# Altium schematic symbol library acelerometro.SchLib: 3 symbols
Pins are listed as number, name and electrical type; pins without a type are passive.

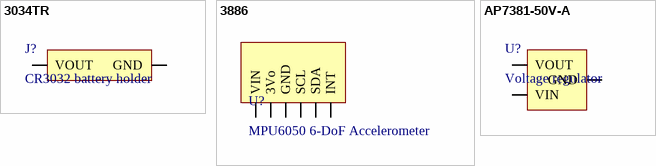
[diagram p0: symbols 3034TR to AP7381-50V-A]

## 3034TR
designator J?, comment CR3032 battery holder
footprint FP-3034TR-MFG
pins: 1 VOUT, 2 GND

## 3886
designator U?, comment MPU6050 6-DoF Accelerometer
Apex Tool Group Ratcheting Tap and Die Set (40-Piece) 3886; Manufacturer: Adafruit Industries; Manufacturer Part Number: 3886; Supplier: Digikey; Supplier Part Number: 1528-3886-ND; RoHS: No; Category: Uncategorized; Stock: 118; Pricing: 1=12.95 (USD)
footprint MPU6050
pins: 1 VIN, 2 3Vo, 3 GND, 4 SCL, 5 SDA, 6 INT

## AP7381-50V-A
designator U?, comment Voltage regulator
Fixed Positive LDO Regulator; Manufacturer: Diodes; Manufacturer Part Number: AP7381-50V-A; Regulator Type: FIXED POSITIVE SINGLE OUTPUT LDO REGULATOR; Time @ Peak Reflow Temperature-Max (s): 30s; Supplier: Digikey; Supplier Part Number: AP7381-50V-ADICT-ND; RoHS: Yes; Stock: 6439; Pricing: 1=0.46, 10=0.374, 25=0.3424, 100=0.2547, 250=0.2308, 500=0.19102, 1000=0.14326 (USD); Peak Reflow Temperature (Cel): 260°C; Reach SVHC Compliant: Yes; RoHS Compliant: Yes; ComponentLink1URL: https://datasheet.ciiva.com:443/pdfs/VipMasterIC/IC/DIOD/DIOD-S-A0009691348/DIOD-S-A0009865550-1.pdf?src-supplier=IHS+Markit; ComponentLink1Description: https://datasheet.ciiva.com:443/pdfs/VipMasterIC/IC/DIOD/DIOD-S-A0009691348/DIOD-S-A0009865550-1.pdf?src-supplier=IHS+Markit; ComponentLink2URL: https://www.diodes.com/assets/Datasheets/AP7381.pdf?src-supplier=Digikey; ComponentLink2Description: https://www.diodes.com/assets/Datasheets/AP7381.pdf?src-supplier=Digikey
footprint AP7381-50V-A
pins: 1 VOUT, 2 GND, 3 VIN